# EAGLE library part LM393N (library ls_403_signal_converter)
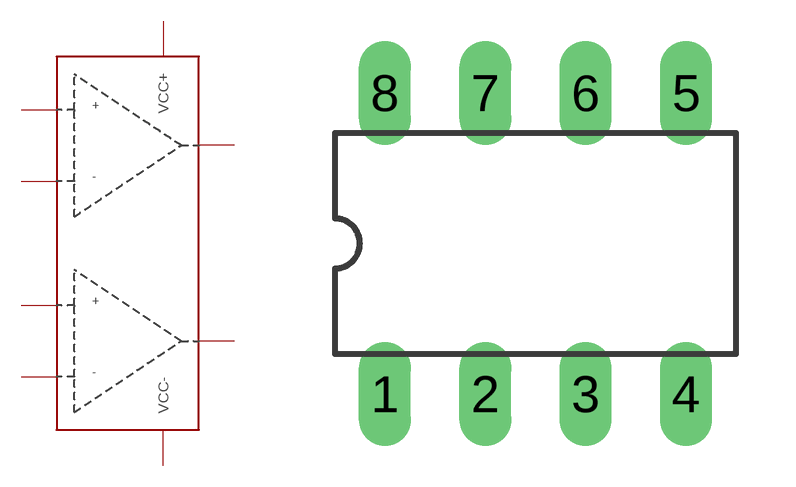
[diagram p1: symbol with the pads of DIL08; footprint DIL08]

Designator prefix COMP

## LM393N  [DIL08]
1  COM1_OUT
2  COMP1_-
3  COMP1_+
4  VCC-
5  COM2_+
6  COMP2_-
7  COMP2_OUT
8  VCC+

## Footprint DIL08 (pad centres in mm)
Dual In Line
drill 0.813 long: 1 -3.81,-3.81; 2 -1.27,-3.81; 3 1.27,-3.81; 4 3.81,-3.81; 5 3.81,3.81; 6 1.27,3.81; 7 -1.27,3.81; 8 -3.81,3.81